# Altium schematic symbol library DIODE_Schottky_BAT54S.SchLib: 1 symbol
Pins are listed as number, name and electrical type; pins without a type are passive.

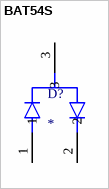
[diagram p0: symbol BAT54S]

## BAT54S
designator D?
BAT54 Series 0.8 V 200 mA 30 V Max Reverse Voltage Schottky Diode - SOT-23-3; MP: BAT54S; Package: None; Value: *; Availability: Unavailable; Price: None
footprint SOT95P240X120-3N
pins: 1, 2, 3